# Altium schematic symbol library SCH - POWER - LINEAR VREG - TI LP38855T-0.8.SchLib: 1 symbol
Pins are listed as number, name and electrical type; pins without a type are passive.

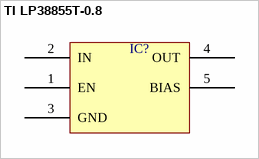
[diagram p0: symbol TI LP38855T-0.8]

## TI LP38855T-0.8
designator IC?  (value not drawn)
pins: 1 EN, 2 IN, 3 GND, 4 OUT, 5 BIAS